# EAGLE library part ATSAMD21G18 (library Deegou_IC)
ARM Microcontrollers - MCU 256KB 32KB 48QFN GRN1.6-3.6V48MHz Source: Datasheet <http://www.atmel.com/Images/Atmel-42181-SAM-D21_Datasheet.pdf>
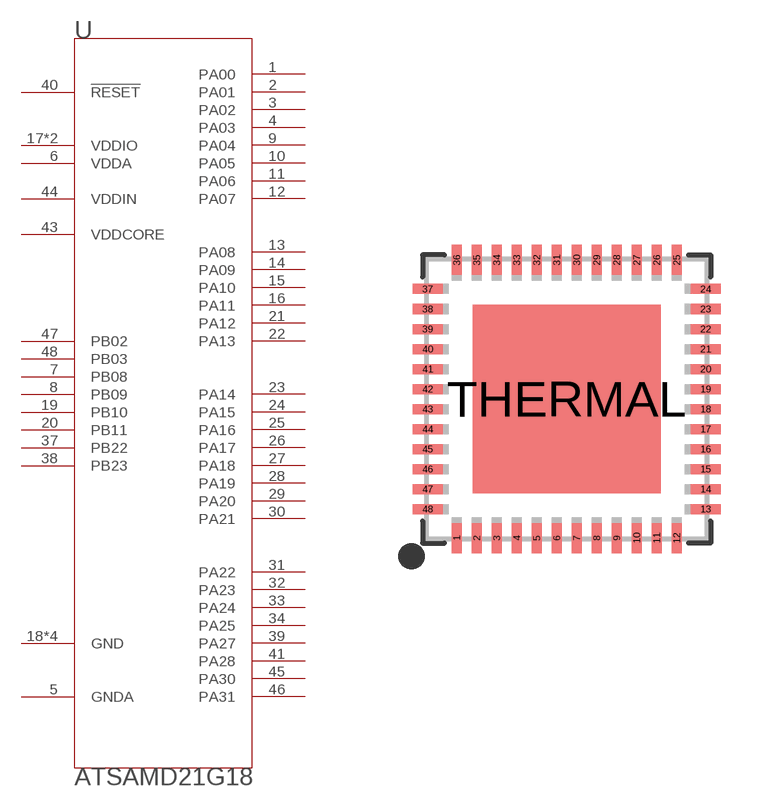
[diagram p47: symbol with the pads of QFN48_7MM; footprint QFN48_7MM]

Designator prefix U

## ATSAMD21G18 (ARROW_PART_NUMBER: ATSAMD21G18A-MUT; DESCRIPTION: ARM Microcontrollers - MCU 256KB 32KB 48QFN GRN1.6-3.6V48MHz; HEIGHT: 0.9mm; MANUFACTURER_NAME: Microchip; MANUFACTURER_PART_NUMBER: ATSAMD21G18A-MUT)  [QFN48_7MM]
1  PA00
2  PA01
3  PA02
4  PA03
5  GNDA
6  VDDA
7  PB08
8  PB09
9  PA04
10  PA05
11  PA06
12  PA07
13  PA08
14  PA09
15  PA10
16  PA11
17  VDDIO
18  GND
19  PB10
20  PB11
21  PA12
22  PA13
23  PA14
24  PA15
25  PA16
26  PA17
27  PA18
28  PA19
29  PA20
30  PA21
31  PA22
32  PA23
33  PA24
34  PA25
35  GND
36  VDDIO
37  PB22
38  PB23
39  PA27
40  !RESET
41  PA28
42  GND
43  VDDCORE
44  VDDIN
45  PA30
46  PA31
47  PB02
48  PB03
THERMAL  GND

## Footprint QFN48_7MM (pad centres in mm)
smd 0.25 x 0.75: 1 -2.75,-3.475; 2 -2.25,-3.475; 3 -1.75,-3.475; 4 -1.25,-3.475; 5 -0.75,-3.475; 6 -0.25,-3.475; 7 0.25,-3.475; 8 0.75,-3.475; 9 1.25,-3.475; 10 1.75,-3.475; 11 2.25,-3.475; 12 2.75,-3.475; 25 2.75,3.475; 26 2.25,3.475; 27 1.75,3.475; 28 1.25,3.475; 29 0.75,3.475; 30 0.25,3.475; 31 -0.25,3.475; 32 -0.75,3.475; 33 -1.25,3.475; 34 -1.75,3.475; 35 -2.25,3.475; 36 -2.75,3.475
smd 0.75 x 0.25: 13 3.475,-2.75; 14 3.475,-2.25; 15 3.475,-1.75; 16 3.475,-1.25; 17 3.475,-0.75; 18 3.475,-0.25; 19 3.475,0.25; 20 3.475,0.75; 21 3.475,1.25; 22 3.475,1.75; 23 3.475,2.25; 24 3.475,2.75; 37 -3.475,2.75; 38 -3.475,2.25; 39 -3.475,1.75; 40 -3.475,1.25; 41 -3.475,0.75; 42 -3.475,0.25; 43 -3.475,-0.25; 44 -3.475,-0.75; 45 -3.475,-1.25; 46 -3.475,-1.75; 47 -3.475,-2.25; 48 -3.475,-2.75
smd 4.7 x 4.7: THERMAL 0,0